# Altium integrated library Microchip Microcontroller 8-Bit PIC16.IntLib: 1529 symbols (part 12 of 55)
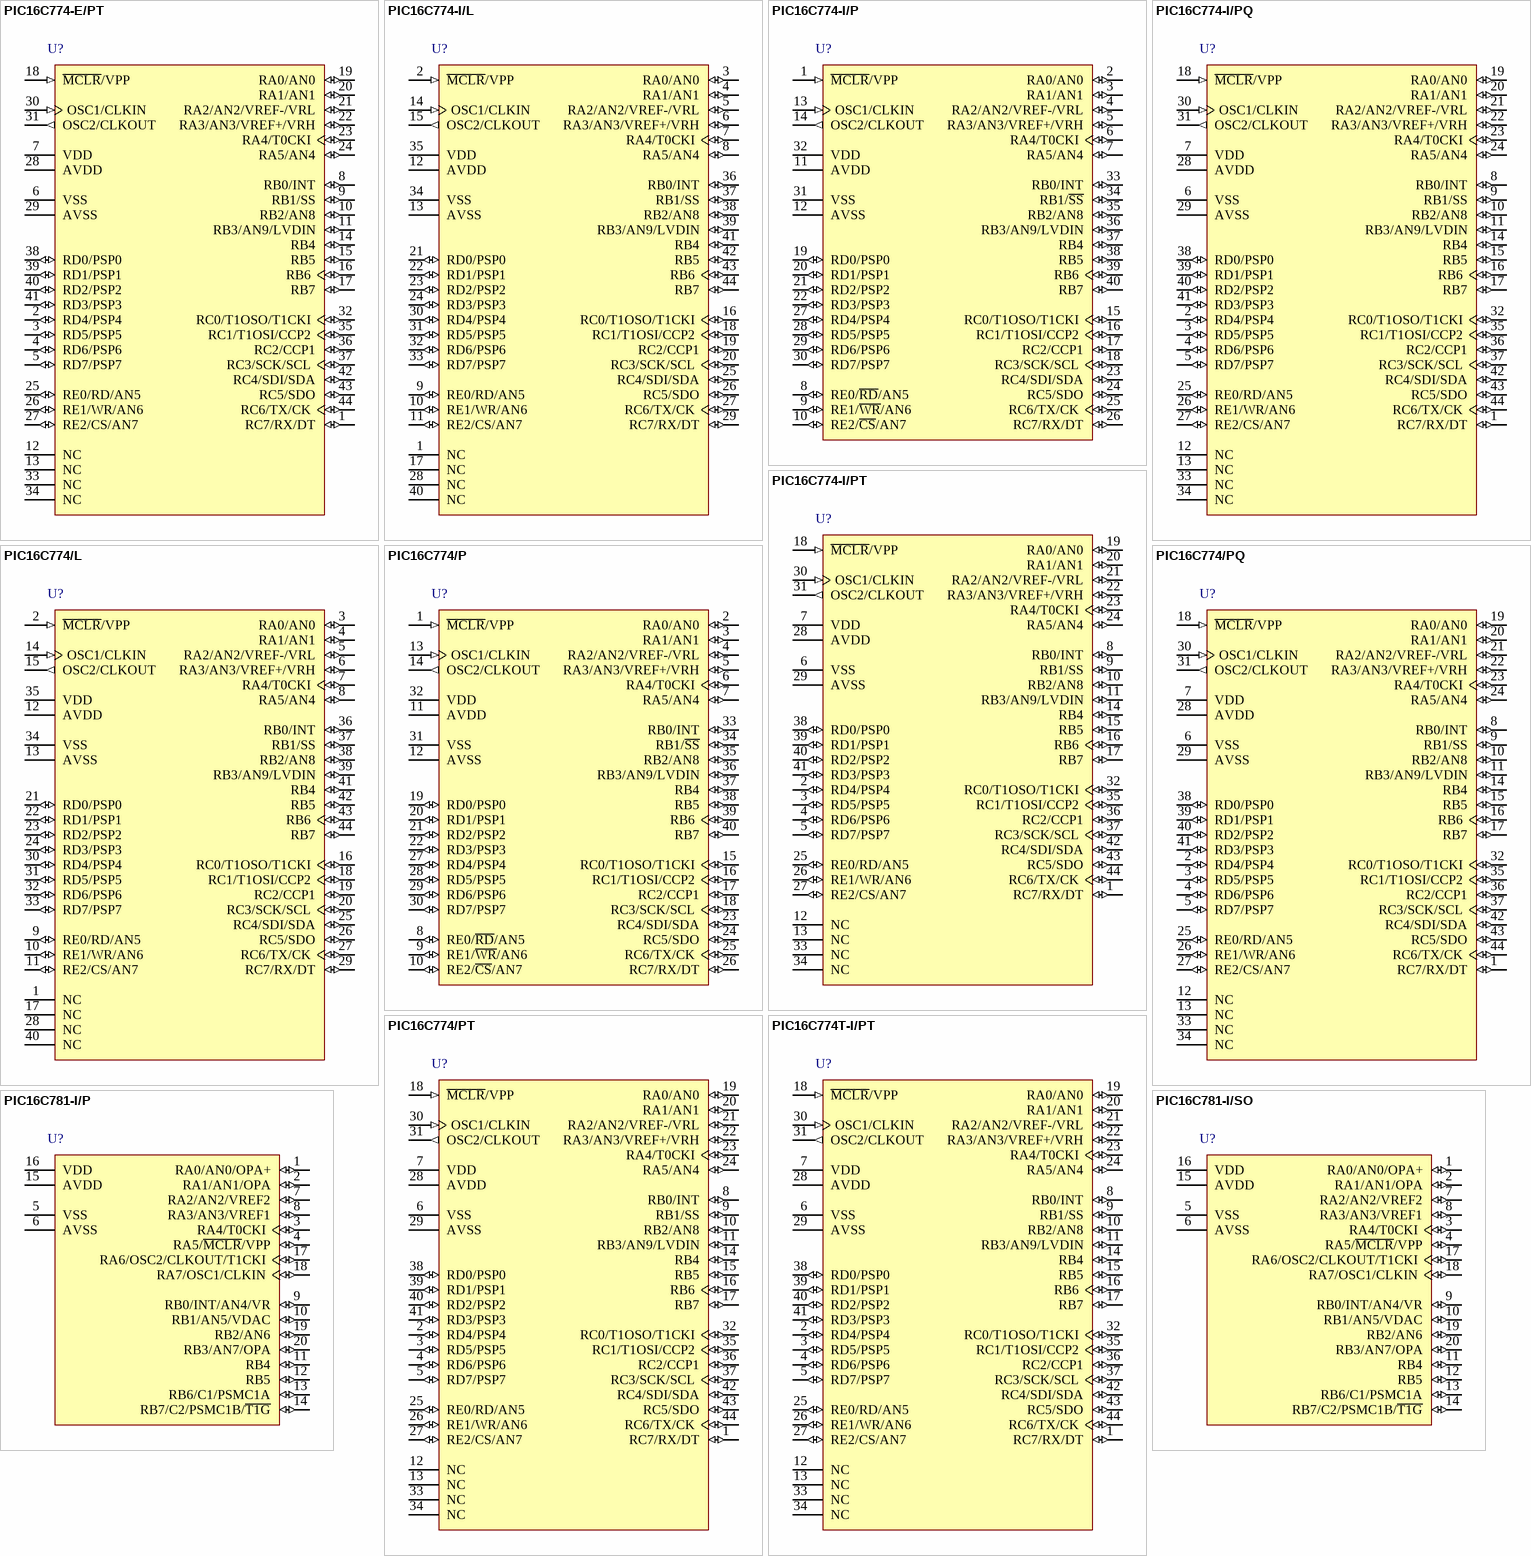
[diagram p129: symbols PIC16C774-E/PT to PIC16C781-I/SO]

## PIC16C774/PQ
designator U?
8-Bit CMOS Microcontroller with 12-Bit A/D, 4K (x14-Bit words) Program Memory, 256 Bytes Data Memory, 44-Pin MQFP, Standard VDD Range, Commercial Temperature; ComponentAvailability: Unknown. Contact manufacturer to determine status.; Published: 29-Jan-2009; DatasheetVersion: revA, 1999; PackageVersion: revBB, Aug-2009; PackageReference: MQFP-PQ44; Publisher: Altium Limited; PackageDescription: 44-Lead Plastic Metric Quad Flatpack (PQ) - 10x10x2mm Body, 3.20mm [MQFP]; Supplier 1: Digi-Key; Supplier Part Number 1: PIC16C774/PQ-ND; Code_JEDEC: MS-022; Code_IPC: QFP80P1320X1320-44; ComponentLink1Description: Datasheet; ComponentLink1URL: http://ww1.microchip.com/downloads/en/DeviceDoc/30275a.pdf; ComponentLink2Description: Packaging Specification; ComponentLink2URL: http://www.microchip.com/stellent/groups/techpub_sg/documents/packagingspec/en012702.pdf; ComponentLink3Description: Microchip.com Home; ComponentLink3URL: http://www.microchip.com/
footprint MQFP-PQ44_N (QFP, 44-Leads, Body 10x10mm, Pitch 0.8mm, IPC Medium Density)
footprint MQFP-PQ44_L (QFP, 44-Leads, Body 10x10mm, Pitch 0.8mm, IPC High Density)
footprint MQFP-PQ44_M (QFP, 44-Leads, Body 10x10mm, Pitch 0.8mm, IPC Low Density)
pins: 1 RC7/RX/DT (io), 2 RD4/PSP4 (io), 3 RD5/PSP5 (io), 4 RD6/PSP6 (io), 5 RD7/PSP7 (io), 6 VSS (power), 7 VDD (power), 8 RB0/INT (io), 9 RB1/SS (io), 10 RB2/AN8 (io), 11 RB3/AN9/LVDIN (io), 12 NC, 13 NC, 14 RB4 (io), 15 RB5 (io), 16 RB6 (io), 17 RB7 (io), 18 ~{MCLR}/VPP (in), 19 RA0/AN0 (io), 20 RA1/AN1 (io), 21 RA2/AN2/VREF-/VRL (io), 22 RA3/AN3/VREF+/VRH (io), 23 RA4/T0CKI (io), 24 RA5/AN4 (io), 25 RE0/RD/AN5 (io), 26 RE1/WR/AN6 (io), 27 RE2/CS/AN7 (io), 28 AVDD (power), 29 AVSS (power), 30 OSC1/CLKIN (in), 31 OSC2/CLKOUT (out), 32 RC0/T1OSO/T1CKI (io), 33 NC, 34 NC, 35 RC1/T1OSI/CCP2 (io), 36 RC2/CCP1 (io), 37 RC3/SCK/SCL (io), 38 RD0/PSP0 (io), 39 RD1/PSP1 (io), 40 RD2/PSP2 (io), 41 RD3/PSP3 (io), 42 RC4/SDI/SDA (io), 43 RC5/SDO (io), 44 RC6/TX/CK (io)

## PIC16C774/PT
designator U?
8-Bit CMOS Microcontroller with 12-Bit A/D, 4K (x14-Bit words) Program Memory, 256 Bytes Data Memory, 44-Pin TQFP, Standard VDD Range, Commercial Temperature; ComponentAvailability: Unknown. Contact manufacturer to determine status.; Published: 29-Jan-2009; DatasheetVersion: revA, 1999; PackageVersion: revBB, Aug-2009; PackageReference: TQFP-PT44; Publisher: Altium Limited; PackageDescription: 44-Lead Plastic Thin Quad Flatpack (PT) - 10x10x1mm Body, 2.00mm [TQFP]; Supplier 1: Digi-Key; Supplier Part Number 1: PIC16C774/PT-ND; Code_JEDEC: MS-026; ComponentLink1Description: Datasheet; ComponentLink1URL: http://ww1.microchip.com/downloads/en/DeviceDoc/30275a.pdf; ComponentLink2Description: Packaging Specification; ComponentLink2URL: http://www.microchip.com/stellent/groups/techpub_sg/documents/packagingspec/en012702.pdf; ComponentLink3Description: Microchip.com Home; ComponentLink3URL: http://www.microchip.com/
footprint TQFP-PT44_N (Thin QFP, 44-Leads, Body 10x10mm, Pitch 0.8mm, IPC Medium Density)
footprint TQFP-PT44_L (Thin QFP, 44-Leads, Body 10x10mm, Pitch 0.8mm, IPC High Density)
footprint TQFP-PT44_M (Thin QFP, 44-Leads, Body 10x10mm, Pitch 0.8mm, IPC Low Density)
pins: 1 RC7/RX/DT (io), 2 RD4/PSP4 (io), 3 RD5/PSP5 (io), 4 RD6/PSP6 (io), 5 RD7/PSP7 (io), 6 VSS (power), 7 VDD (power), 8 RB0/INT (io), 9 RB1/SS (io), 10 RB2/AN8 (io), 11 RB3/AN9/LVDIN (io), 12 NC, 13 NC, 14 RB4 (io), 15 RB5 (io), 16 RB6 (io), 17 RB7 (io), 18 ~{MCLR}/VPP (in), 19 RA0/AN0 (io), 20 RA1/AN1 (io), 21 RA2/AN2/VREF-/VRL (io), 22 RA3/AN3/VREF+/VRH (io), 23 RA4/T0CKI (io), 24 RA5/AN4 (io), 25 RE0/RD/AN5 (io), 26 RE1/WR/AN6 (io), 27 RE2/CS/AN7 (io), 28 AVDD (power), 29 AVSS (power), 30 OSC1/CLKIN (in), 31 OSC2/CLKOUT (out), 32 RC0/T1OSO/T1CKI (io), 33 NC, 34 NC, 35 RC1/T1OSI/CCP2 (io), 36 RC2/CCP1 (io), 37 RC3/SCK/SCL (io), 38 RD0/PSP0 (io), 39 RD1/PSP1 (io), 40 RD2/PSP2 (io), 41 RD3/PSP3 (io), 42 RC4/SDI/SDA (io), 43 RC5/SDO (io), 44 RC6/TX/CK (io)

## PIC16C774T-I/PT
designator U?
8-Bit CMOS Microcontroller with 12-Bit A/D, 4K (x14-Bit words) Program Memory, 256 Bytes Data Memory, 44-Pin TQFP, Standard VDD Range, Industrial Temperature, Tape and Reel; ComponentAvailability: Unknown. Contact manufacturer to determine status.; Published: 29-Jan-2009; DatasheetVersion: revA, 1999; PackageVersion: revBB, Aug-2009; PackageReference: TQFP-PT44; Publisher: Altium Limited; PackageDescription: 44-Lead Plastic Thin Quad Flatpack (PT) - 10x10x1mm Body, 2.00mm [TQFP]; Supplier 1: Digi-Key; Supplier Part Number 1: PIC16C774T-I/PT-ND; Code_JEDEC: MS-026; ComponentLink1Description: Datasheet; ComponentLink1URL: http://ww1.microchip.com/downloads/en/DeviceDoc/30275a.pdf; ComponentLink2Description: Packaging Specification; ComponentLink2URL: http://www.microchip.com/stellent/groups/techpub_sg/documents/packagingspec/en012702.pdf; ComponentLink3Description: Microchip.com Home; ComponentLink3URL: http://www.microchip.com/
footprint TQFP-PT44_N (Thin QFP, 44-Leads, Body 10x10mm, Pitch 0.8mm, IPC Medium Density)
footprint TQFP-PT44_L (Thin QFP, 44-Leads, Body 10x10mm, Pitch 0.8mm, IPC High Density)
footprint TQFP-PT44_M (Thin QFP, 44-Leads, Body 10x10mm, Pitch 0.8mm, IPC Low Density)
pins: 1 RC7/RX/DT (io), 2 RD4/PSP4 (io), 3 RD5/PSP5 (io), 4 RD6/PSP6 (io), 5 RD7/PSP7 (io), 6 VSS (power), 7 VDD (power), 8 RB0/INT (io), 9 RB1/SS (io), 10 RB2/AN8 (io), 11 RB3/AN9/LVDIN (io), 12 NC, 13 NC, 14 RB4 (io), 15 RB5 (io), 16 RB6 (io), 17 RB7 (io), 18 ~{MCLR}/VPP (in), 19 RA0/AN0 (io), 20 RA1/AN1 (io), 21 RA2/AN2/VREF-/VRL (io), 22 RA3/AN3/VREF+/VRH (io), 23 RA4/T0CKI (io), 24 RA5/AN4 (io), 25 RE0/RD/AN5 (io), 26 RE1/WR/AN6 (io), 27 RE2/CS/AN7 (io), 28 AVDD (power), 29 AVSS (power), 30 OSC1/CLKIN (in), 31 OSC2/CLKOUT (out), 32 RC0/T1OSO/T1CKI (io), 33 NC, 34 NC, 35 RC1/T1OSI/CCP2 (io), 36 RC2/CCP1 (io), 37 RC3/SCK/SCL (io), 38 RD0/PSP0 (io), 39 RD1/PSP1 (io), 40 RD2/PSP2 (io), 41 RD3/PSP3 (io), 42 RC4/SDI/SDA (io), 43 RC5/SDO (io), 44 RC6/TX/CK (io)

## PIC16C781-I/P
designator U?
8-Bit CMOS Microcontroller with A/D, D/A, OPAMP, Comparators and PSMC, 1K (x14-Bit words) EPROM, 128 Bytes RAM, 20-Pin PDIP, 4.0 to 5.5V Supply Range, Industrial Temperature; Note: AVDD and AVSS pins are used for modules C1, C2, OPA, DAC, ADC, and VR.; ComponentAvailability: Unknown. Contact manufacturer to determine status.; Published: 11-Oct-2004; LatestRevisionDate: 29-Jan-2009; LatestRevisionNote: Sch. layout revised. 3D Model Removed.; DatasheetVersion: revA, Nov-2002; PackageVersion: revBB, Aug-2009; PackageReference: PDIP300-P20; Publisher: Altium Limited; PackageDescription: 20-Lead Plastic Dual In-Line (P) - 300 mil Body [PDIP]; Supplier 1: Digi-Key; Supplier Part Number 1: PIC16C781-I/P-ND; ComponentLink1Description: Datasheet; ComponentLink1URL: http://ww1.microchip.com/downloads/en/DeviceDoc/41171a.pdf; ComponentLink2Description: Packaging Specification; ComponentLink2URL: http://www.microchip.com/stellent/groups/techpub_sg/documents/packagingspec/en012702.pdf; ComponentLink3Description: Microchip.com Home; ComponentLink3URL: http://www.microchip.com/
footprint PDIP300-P20 (DIP, 20-Leads, Row Spacing 7.62mm, Pitch 2.54mm, Body 25.9x6.6mm)
pins: 1 RA0/AN0/OPA+ (io), 2 RA1/AN1/OPA (io), 3 RA4/T0CKI (io), 4 RA5/~{MCLR}/VPP (io), 5 VSS (power), 6 AVSS (power), 7 RA2/AN2/VREF2 (io), 8 RA3/AN3/VREF1 (io), 9 RB0/INT/AN4/VR (io), 10 RB1/AN5/VDAC (io), 11 RB4 (io), 12 RB5 (io), 13 RB6/C1/PSMC1A (io), 14 RB7/C2/PSMC1B/~{T1G} (io), 15 AVDD (power), 16 VDD (power), 17 RA6/OSC2/CLKOUT/T1CKI (io), 18 RA7/OSC1/CLKIN (io), 19 RB2/AN6 (io), 20 RB3/AN7/OPA (io)

## PIC16C781-I/SO
designator U?
8-Bit CMOS Microcontroller with A/D, D/A, OPAMP, Comparators and PSMC, 1K (x14-Bit words) EPROM, 128 Bytes RAM, 20-Pin SOIC, 4.0 to 5.5V Supply Range, Industrial Temperature; Note: AVDD and AVSS pins are used for modules C1, C2, OPA, DAC, ADC, and VR.; ComponentAvailability: Unknown. Contact manufacturer to determine status.; Published: 11-Oct-2004; LatestRevisionDate: 29-Jan-2009; LatestRevisionNote: Sch. layout revised. 3D Model Removed.; DatasheetVersion: revA, Nov-2002; PackageVersion: revBB, Aug-2009; PackageReference: SOIC-SO20; Publisher: Altium Limited; PackageDescription: 20-Lead Plastic Small Outline (SO) - Wide 7.50mm Body [SOIC]; Supplier 1: Digi-Key; Supplier Part Number 1: PIC16C781-I/SO-ND; Code_JEDEC: MS-013-AC; Code_IPC: SOIC127P1030-20; ComponentLink1Description: Datasheet; ComponentLink1URL: http://ww1.microchip.com/downloads/en/DeviceDoc/41171a.pdf; ComponentLink2Description: Packaging Specification; ComponentLink2URL: http://www.microchip.com/stellent/groups/techpub_sg/documents/packagingspec/en012702.pdf; ComponentLink3Description: Microchip.com Home; ComponentLink3URL: http://www.microchip.com/
footprint SOIC-SO20_N (SOIC, 20-Leads, Body 12.8x7.5mm, Pitch 1.27mm, IPC Medium Density)
footprint SOIC-SO20_L (SOIC, 20-Leads, Body 12.8x7.5mm, Pitch 1.27mm, IPC High Density)
footprint SOIC-SO20_M (SOIC, 20-Leads, Body 12.8x7.5mm, Pitch 1.27mm, IPC Low Density)
pins: 1 RA0/AN0/OPA+ (io), 2 RA1/AN1/OPA (io), 3 RA4/T0CKI (io), 4 RA5/~{MCLR}/VPP (io), 5 VSS (power), 6 AVSS (power), 7 RA2/AN2/VREF2 (io), 8 RA3/AN3/VREF1 (io), 9 RB0/INT/AN4/VR (io), 10 RB1/AN5/VDAC (io), 11 RB4 (io), 12 RB5 (io), 13 RB6/C1/PSMC1A (io), 14 RB7/C2/PSMC1B/~{T1G} (io), 15 AVDD (power), 16 VDD (power), 17 RA6/OSC2/CLKOUT/T1CKI (io), 18 RA7/OSC1/CLKIN (io), 19 RB2/AN6 (io), 20 RB3/AN7/OPA (io)

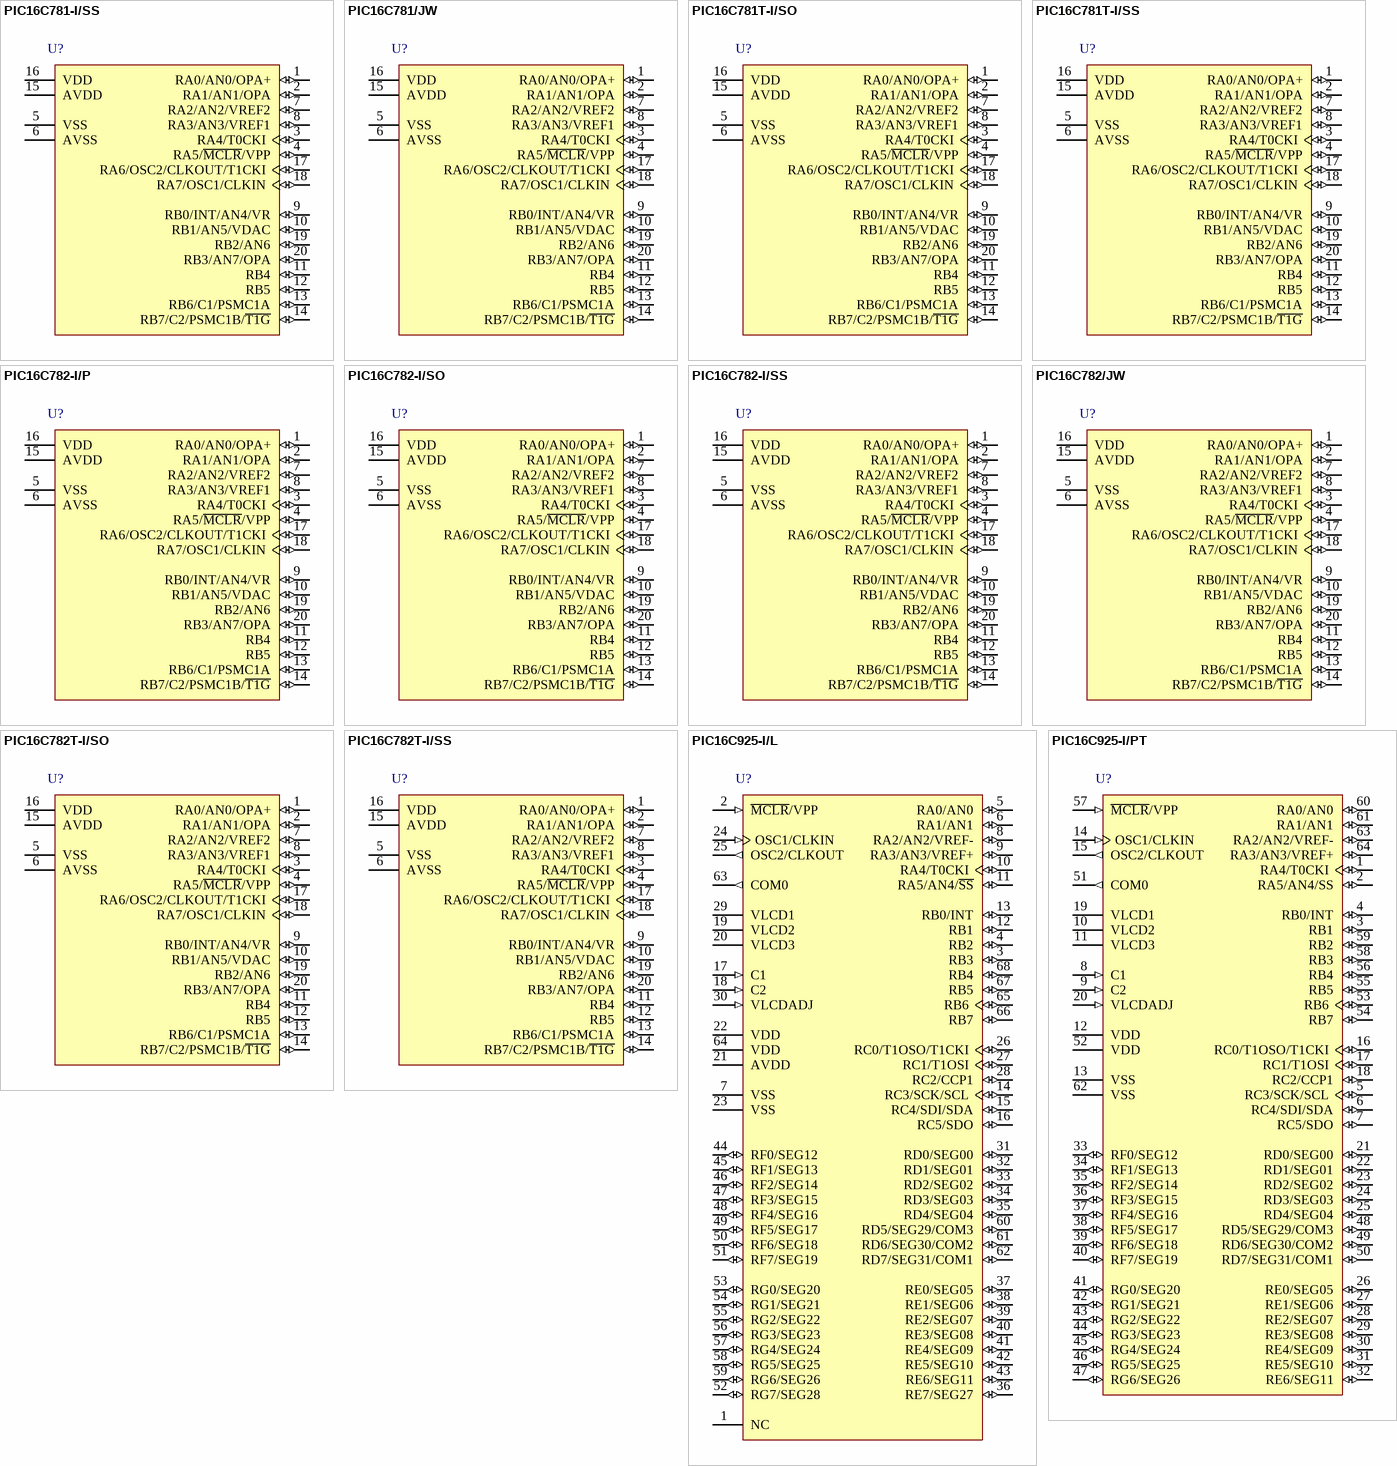
[diagram p21: symbols PIC16C781-I/SS to PIC16C925-I/PT]

## PIC16C781-I/SS
designator U?
8-Bit CMOS Microcontroller with A/D, D/A, OPAMP, Comparators and PSMC, 1K (x14-Bit words) EPROM, 128 Bytes RAM, 20-Pin SSOP, 4.0 to 5.5V Supply Range, Industrial Temperature; Note: AVDD and AVSS pins are used for modules C1, C2, OPA, DAC, ADC, and VR.; ComponentAvailability: Unknown. Contact manufacturer to determine status.; Published: 11-Oct-2004; LatestRevisionDate: 29-Jan-2009; LatestRevisionNote: Sch. layout revised. 3D Model Removed.; DatasheetVersion: revA, Nov-2002; PackageVersion: revBB, Aug-2009; PackageReference: SSOP-SS20; Publisher: Altium Limited; PackageDescription: 20-Lead Plastic Shrink Small Outline (SS) - 5.3mm Body [SSOP]; Supplier 1: Digi-Key; Supplier Part Number 1: PIC16C781-I/SS-ND; Code_JEDEC: MO-150; Code_IPC: SOP65P780-20; ComponentLink1Description: Datasheet; ComponentLink1URL: http://ww1.microchip.com/downloads/en/DeviceDoc/41171a.pdf; ComponentLink2Description: Packaging Specification; ComponentLink2URL: http://www.microchip.com/stellent/groups/techpub_sg/documents/packagingspec/en012702.pdf; ComponentLink3Description: Microchip.com Home; ComponentLink3URL: http://www.microchip.com/
footprint SSOP-SS20_N (SOP, 20-Leads, Body 7.2x5.2mm, Pitch 0.65mm, IPC Medium Density)
footprint SSOP-SS20_L (SOP, 20-Leads, Body 7.2x5.2mm, Pitch 0.65mm, IPC High Density)
footprint SSOP-SS20_M (SOP, 20-Leads, Body 7.2x5.2mm, Pitch 0.65mm, IPC Low Density)
pins: 1 RA0/AN0/OPA+ (io), 2 RA1/AN1/OPA (io), 3 RA4/T0CKI (io), 4 RA5/~{MCLR}/VPP (io), 5 VSS (power), 6 AVSS (power), 7 RA2/AN2/VREF2 (io), 8 RA3/AN3/VREF1 (io), 9 RB0/INT/AN4/VR (io), 10 RB1/AN5/VDAC (io), 11 RB4 (io), 12 RB5 (io), 13 RB6/C1/PSMC1A (io), 14 RB7/C2/PSMC1B/~{T1G} (io), 15 AVDD (power), 16 VDD (power), 17 RA6/OSC2/CLKOUT/T1CKI (io), 18 RA7/OSC1/CLKIN (io), 19 RB2/AN6 (io), 20 RB3/AN7/OPA (io)

## PIC16C781/JW
designator U?
8-Bit CMOS Microcontroller with A/D, D/A, OPAMP, Comparators and PSMC, 1K (x14-Bit words) EPROM, 128 Bytes RAM, 20-Pin CERDIP, UV Erasable, 4.0 to 5.5V Supply Range, Commercial Temperature; Note: AVDD and AVSS pins are used for modules C1, C2, OPA, DAC, ADC, and VR.; ComponentAvailability: Unknown. Contact manufacturer to determine status.; Published: 11-Oct-2004; LatestRevisionDate: 29-Jan-2009; LatestRevisionNote: Sch. layout revised. 3D Model Removed.; DatasheetVersion: revA, Nov-2002; PackageVersion: revBB, Aug-2009; PackageReference: CERDIP300-JW20; Publisher: Altium Limited; PackageDescription: 20-Lead Ceramic Dual In-Line with Window (JW) - .300" Body [CERDIP]; Supplier 1: Digi-Key; Supplier Part Number 1: PIC16C781/JW-ND; Supplier 2: Farnell; Supplier Part Number 2: 4137050; Code_JEDEC: MS-030; ComponentLink1Description: Datasheet; ComponentLink1URL: http://ww1.microchip.com/downloads/en/DeviceDoc/41171a.pdf; ComponentLink2Description: Packaging Specification; ComponentLink2URL: http://www.microchip.com/stellent/groups/techpub_sg/documents/packagingspec/en012702.pdf; ComponentLink3Description: Microchip.com Home; ComponentLink3URL: http://www.microchip.com/
footprint CERDIP300-JW20 (DIP, 20-Leads, Row Spacing 7.62mm, Pitch 2.54mm, Body 24.3x7.3mm, Window)
pins: 1 RA0/AN0/OPA+ (io), 2 RA1/AN1/OPA (io), 3 RA4/T0CKI (io), 4 RA5/~{MCLR}/VPP (io), 5 VSS (power), 6 AVSS (power), 7 RA2/AN2/VREF2 (io), 8 RA3/AN3/VREF1 (io), 9 RB0/INT/AN4/VR (io), 10 RB1/AN5/VDAC (io), 11 RB4 (io), 12 RB5 (io), 13 RB6/C1/PSMC1A (io), 14 RB7/C2/PSMC1B/~{T1G} (io), 15 AVDD (power), 16 VDD (power), 17 RA6/OSC2/CLKOUT/T1CKI (io), 18 RA7/OSC1/CLKIN (io), 19 RB2/AN6 (io), 20 RB3/AN7/OPA (io)

## PIC16C781T-I/SO
designator U?
8-Bit CMOS Microcontroller with A/D, D/A, OPAMP, Comparators and PSMC, 1K (x14-Bit words) EPROM, 128 Bytes RAM, 20-Pin SOIC, 4.0 to 5.5V Supply Range, Industrial Temperature, Tape and Reel; Note: AVDD and AVSS pins are used for modules C1, C2, OPA, DAC, ADC, and VR.; ComponentAvailability: Unknown. Contact manufacturer to determine status.; Published: 11-Oct-2004; LatestRevisionDate: 29-Jan-2009; LatestRevisionNote: Sch. layout revised. 3D Model Removed.; DatasheetVersion: revA, Nov-2002; PackageVersion: revBB, Aug-2009; PackageReference: SOIC-SO20; Publisher: Altium Limited; PackageDescription: 20-Lead Plastic Small Outline (SO) - Wide 7.50mm Body [SOIC]; Supplier 1: Digi-Key; Supplier Part Number 1: PIC16C781T-I/SO-ND; Code_JEDEC: MS-013-AC; Code_IPC: SOIC127P1030-20; ComponentLink1Description: Datasheet; ComponentLink1URL: http://ww1.microchip.com/downloads/en/DeviceDoc/41171a.pdf; ComponentLink2Description: Packaging Specification; ComponentLink2URL: http://www.microchip.com/stellent/groups/techpub_sg/documents/packagingspec/en012702.pdf; ComponentLink3Description: Microchip.com Home; ComponentLink3URL: http://www.microchip.com/
footprint SOIC-SO20_N (SOIC, 20-Leads, Body 12.8x7.5mm, Pitch 1.27mm, IPC Medium Density)
footprint SOIC-SO20_L (SOIC, 20-Leads, Body 12.8x7.5mm, Pitch 1.27mm, IPC High Density)
footprint SOIC-SO20_M (SOIC, 20-Leads, Body 12.8x7.5mm, Pitch 1.27mm, IPC Low Density)
pins: 1 RA0/AN0/OPA+ (io), 2 RA1/AN1/OPA (io), 3 RA4/T0CKI (io), 4 RA5/~{MCLR}/VPP (io), 5 VSS (power), 6 AVSS (power), 7 RA2/AN2/VREF2 (io), 8 RA3/AN3/VREF1 (io), 9 RB0/INT/AN4/VR (io), 10 RB1/AN5/VDAC (io), 11 RB4 (io), 12 RB5 (io), 13 RB6/C1/PSMC1A (io), 14 RB7/C2/PSMC1B/~{T1G} (io), 15 AVDD (power), 16 VDD (power), 17 RA6/OSC2/CLKOUT/T1CKI (io), 18 RA7/OSC1/CLKIN (io), 19 RB2/AN6 (io), 20 RB3/AN7/OPA (io)

## PIC16C781T-I/SS
designator U?
8-Bit CMOS Microcontroller with A/D, D/A, OPAMP, Comparators and PSMC, 1K (x14-Bit words) EPROM, 128 Bytes RAM, 20-Pin SSOP, 4.0 to 5.5V Supply Range, Industrial Temperature, Tape and Reel; Note: AVDD and AVSS pins are used for modules C1, C2, OPA, DAC, ADC, and VR.; ComponentAvailability: Unknown. Contact manufacturer to determine status.; Published: 11-Oct-2004; LatestRevisionDate: 29-Jan-2009; LatestRevisionNote: Sch. layout revised. 3D Model Removed.; DatasheetVersion: revA, Nov-2002; PackageVersion: revBB, Aug-2009; PackageReference: SSOP-SS20; Publisher: Altium Limited; PackageDescription: 20-Lead Plastic Shrink Small Outline (SS) - 5.3mm Body [SSOP]; Supplier 1: Digi-Key; Supplier Part Number 1: PIC16C781T-I/SS-ND; Code_JEDEC: MO-150; Code_IPC: SOP65P780-20; ComponentLink1Description: Datasheet; ComponentLink1URL: http://ww1.microchip.com/downloads/en/DeviceDoc/41171a.pdf; ComponentLink2Description: Packaging Specification; ComponentLink2URL: http://www.microchip.com/stellent/groups/techpub_sg/documents/packagingspec/en012702.pdf; ComponentLink3Description: Microchip.com Home; ComponentLink3URL: http://www.microchip.com/
footprint SSOP-SS20_N (SOP, 20-Leads, Body 7.2x5.2mm, Pitch 0.65mm, IPC Medium Density)
footprint SSOP-SS20_L (SOP, 20-Leads, Body 7.2x5.2mm, Pitch 0.65mm, IPC High Density)
footprint SSOP-SS20_M (SOP, 20-Leads, Body 7.2x5.2mm, Pitch 0.65mm, IPC Low Density)
pins: 1 RA0/AN0/OPA+ (io), 2 RA1/AN1/OPA (io), 3 RA4/T0CKI (io), 4 RA5/~{MCLR}/VPP (io), 5 VSS (power), 6 AVSS (power), 7 RA2/AN2/VREF2 (io), 8 RA3/AN3/VREF1 (io), 9 RB0/INT/AN4/VR (io), 10 RB1/AN5/VDAC (io), 11 RB4 (io), 12 RB5 (io), 13 RB6/C1/PSMC1A (io), 14 RB7/C2/PSMC1B/~{T1G} (io), 15 AVDD (power), 16 VDD (power), 17 RA6/OSC2/CLKOUT/T1CKI (io), 18 RA7/OSC1/CLKIN (io), 19 RB2/AN6 (io), 20 RB3/AN7/OPA (io)

## PIC16C782-I/P
designator U?
8-Bit CMOS Microcontroller with A/D, D/A, OPAMP, Comparators and PSMC, 2K (x14-Bit words) EPROM, 128 Bytes RAM, 20-Pin PDIP, 4.0 to 5.5V Supply Range, Industrial Temperature; Note: AVDD and AVSS pins are used for modules C1, C2, OPA, DAC, ADC, and VR.; ComponentAvailability: Unknown. Contact manufacturer to determine status.; Published: 11-Oct-2004; LatestRevisionDate: 29-Jan-2009; LatestRevisionNote: Sch. layout revised. 3D Model Removed.; DatasheetVersion: revA, Nov-2002; PackageVersion: revBB, Aug-2009; PackageReference: PDIP300-P20; Publisher: Altium Limited; PackageDescription: 20-Lead Plastic Dual In-Line (P) - 300 mil Body [PDIP]; Supplier 1: Digi-Key; Supplier Part Number 1: PIC16C782-I/P-ND; Supplier 2: Farnell; Supplier Part Number 2: 1137342; ComponentLink1Description: Datasheet; ComponentLink1URL: http://ww1.microchip.com/downloads/en/DeviceDoc/41171a.pdf; ComponentLink2Description: Packaging Specification; ComponentLink2URL: http://www.microchip.com/stellent/groups/techpub_sg/documents/packagingspec/en012702.pdf; ComponentLink3Description: Microchip.com Home; ComponentLink3URL: http://www.microchip.com/
footprint PDIP300-P20 (DIP, 20-Leads, Row Spacing 7.62mm, Pitch 2.54mm, Body 25.9x6.6mm)
pins: 1 RA0/AN0/OPA+ (io), 2 RA1/AN1/OPA (io), 3 RA4/T0CKI (io), 4 RA5/~{MCLR}/VPP (io), 5 VSS (power), 6 AVSS (power), 7 RA2/AN2/VREF2 (io), 8 RA3/AN3/VREF1 (io), 9 RB0/INT/AN4/VR (io), 10 RB1/AN5/VDAC (io), 11 RB4 (io), 12 RB5 (io), 13 RB6/C1/PSMC1A (io), 14 RB7/C2/PSMC1B/~{T1G} (io), 15 AVDD (power), 16 VDD (power), 17 RA6/OSC2/CLKOUT/T1CKI (io), 18 RA7/OSC1/CLKIN (io), 19 RB2/AN6 (io), 20 RB3/AN7/OPA (io)

## PIC16C782-I/SO
designator U?
8-Bit CMOS Microcontroller with A/D, D/A, OPAMP, Comparators and PSMC, 2K (x14-Bit words) EPROM, 128 Bytes RAM, 20-Pin SOIC, 4.0 to 5.5V Supply Range, Industrial Temperature; Note: AVDD and AVSS pins are used for modules C1, C2, OPA, DAC, ADC, and VR.; ComponentAvailability: Unknown. Contact manufacturer to determine status.; Published: 11-Oct-2004; LatestRevisionDate: 29-Jan-2009; LatestRevisionNote: Sch. layout revised. 3D Model Removed.; DatasheetVersion: revA, Nov-2002; PackageVersion: revBB, Aug-2009; PackageReference: SOIC-SO20; Publisher: Altium Limited; PackageDescription: 20-Lead Plastic Small Outline (SO) - Wide 7.50mm Body [SOIC]; Supplier 1: Digi-Key; Supplier Part Number 1: PIC16C782-I/SO-ND; Code_JEDEC: MS-013-AC; Code_IPC: SOIC127P1030-20; ComponentLink1Description: Datasheet; ComponentLink1URL: http://ww1.microchip.com/downloads/en/DeviceDoc/41171a.pdf; ComponentLink2Description: Packaging Specification; ComponentLink2URL: http://www.microchip.com/stellent/groups/techpub_sg/documents/packagingspec/en012702.pdf; ComponentLink3Description: Microchip.com Home; ComponentLink3URL: http://www.microchip.com/
footprint SOIC-SO20_N (SOIC, 20-Leads, Body 12.8x7.5mm, Pitch 1.27mm, IPC Medium Density)
footprint SOIC-SO20_L (SOIC, 20-Leads, Body 12.8x7.5mm, Pitch 1.27mm, IPC High Density)
footprint SOIC-SO20_M (SOIC, 20-Leads, Body 12.8x7.5mm, Pitch 1.27mm, IPC Low Density)
pins: 1 RA0/AN0/OPA+ (io), 2 RA1/AN1/OPA (io), 3 RA4/T0CKI (io), 4 RA5/~{MCLR}/VPP (io), 5 VSS (power), 6 AVSS (power), 7 RA2/AN2/VREF2 (io), 8 RA3/AN3/VREF1 (io), 9 RB0/INT/AN4/VR (io), 10 RB1/AN5/VDAC (io), 11 RB4 (io), 12 RB5 (io), 13 RB6/C1/PSMC1A (io), 14 RB7/C2/PSMC1B/~{T1G} (io), 15 AVDD (power), 16 VDD (power), 17 RA6/OSC2/CLKOUT/T1CKI (io), 18 RA7/OSC1/CLKIN (io), 19 RB2/AN6 (io), 20 RB3/AN7/OPA (io)

## PIC16C782-I/SS
designator U?
8-Bit CMOS Microcontroller with A/D, D/A, OPAMP, Comparators and PSMC, 2K (x14-Bit words) EPROM, 128 Bytes RAM, 20-Pin SSOP, 4.0 to 5.5V Supply Range, Industrial Temperature; Note: AVDD and AVSS pins are used for modules C1, C2, OPA, DAC, ADC, and VR.; ComponentAvailability: Unknown. Contact manufacturer to determine status.; Published: 11-Oct-2004; LatestRevisionDate: 29-Jan-2009; LatestRevisionNote: Sch. layout revised. 3D Model Removed.; DatasheetVersion: revA, Nov-2002; PackageVersion: revBB, Aug-2009; PackageReference: SSOP-SS20; Publisher: Altium Limited; PackageDescription: 20-Lead Plastic Shrink Small Outline (SS) - 5.3mm Body [SSOP]; Supplier 1: Digi-Key; Supplier Part Number 1: PIC16C782-I/SS-ND; Code_JEDEC: MO-150; Code_IPC: SOP65P780-20; ComponentLink1Description: Datasheet; ComponentLink1URL: http://ww1.microchip.com/downloads/en/DeviceDoc/41171a.pdf; ComponentLink2Description: Packaging Specification; ComponentLink2URL: http://www.microchip.com/stellent/groups/techpub_sg/documents/packagingspec/en012702.pdf; ComponentLink3Description: Microchip.com Home; ComponentLink3URL: http://www.microchip.com/
footprint SSOP-SS20_N (SOP, 20-Leads, Body 7.2x5.2mm, Pitch 0.65mm, IPC Medium Density)
footprint SSOP-SS20_L (SOP, 20-Leads, Body 7.2x5.2mm, Pitch 0.65mm, IPC High Density)
footprint SSOP-SS20_M (SOP, 20-Leads, Body 7.2x5.2mm, Pitch 0.65mm, IPC Low Density)
pins: 1 RA0/AN0/OPA+ (io), 2 RA1/AN1/OPA (io), 3 RA4/T0CKI (io), 4 RA5/~{MCLR}/VPP (io), 5 VSS (power), 6 AVSS (power), 7 RA2/AN2/VREF2 (io), 8 RA3/AN3/VREF1 (io), 9 RB0/INT/AN4/VR (io), 10 RB1/AN5/VDAC (io), 11 RB4 (io), 12 RB5 (io), 13 RB6/C1/PSMC1A (io), 14 RB7/C2/PSMC1B/~{T1G} (io), 15 AVDD (power), 16 VDD (power), 17 RA6/OSC2/CLKOUT/T1CKI (io), 18 RA7/OSC1/CLKIN (io), 19 RB2/AN6 (io), 20 RB3/AN7/OPA (io)

## PIC16C782/JW
designator U?
8-Bit CMOS Microcontroller with A/D, D/A, OPAMP, Comparators and PSMC, 2K (x14-Bit words) EPROM, 128 Bytes RAM, 20-Pin CERDIP, UV Erasable, 4.0 to 5.5V Supply Range, Commercial Temperature; Note: AVDD and AVSS pins are used for modules C1, C2, OPA, DAC, ADC, and VR.; ComponentAvailability: Unknown. Contact manufacturer to determine status.; Published: 11-Oct-2004; LatestRevisionDate: 29-Jan-2009; LatestRevisionNote: Sch. layout revised. 3D Model Removed.; DatasheetVersion: revA, Nov-2002; PackageVersion: revBB, Aug-2009; PackageReference: CERDIP300-JW20; Publisher: Altium Limited; PackageDescription: 20-Lead Ceramic Dual In-Line with Window (JW) - .300" Body [CERDIP]; Supplier 1: Digi-Key; Supplier Part Number 1: PIC16C782/JW-ND; Supplier 2: Farnell; Supplier Part Number 2: 4137085; Code_JEDEC: MS-030; ComponentLink1Description: Datasheet; ComponentLink1URL: http://ww1.microchip.com/downloads/en/DeviceDoc/41171a.pdf; ComponentLink2Description: Packaging Specification; ComponentLink2URL: http://www.microchip.com/stellent/groups/techpub_sg/documents/packagingspec/en012702.pdf; ComponentLink3Description: Microchip.com Home; ComponentLink3URL: http://www.microchip.com/
footprint CERDIP300-JW20 (DIP, 20-Leads, Row Spacing 7.62mm, Pitch 2.54mm, Body 24.3x7.3mm, Window)
pins: 1 RA0/AN0/OPA+ (io), 2 RA1/AN1/OPA (io), 3 RA4/T0CKI (io), 4 RA5/~{MCLR}/VPP (io), 5 VSS (power), 6 AVSS (power), 7 RA2/AN2/VREF2 (io), 8 RA3/AN3/VREF1 (io), 9 RB0/INT/AN4/VR (io), 10 RB1/AN5/VDAC (io), 11 RB4 (io), 12 RB5 (io), 13 RB6/C1/PSMC1A (io), 14 RB7/C2/PSMC1B/~{T1G} (io), 15 AVDD (power), 16 VDD (power), 17 RA6/OSC2/CLKOUT/T1CKI (io), 18 RA7/OSC1/CLKIN (io), 19 RB2/AN6 (io), 20 RB3/AN7/OPA (io)

## PIC16C782T-I/SO
designator U?
8-Bit CMOS Microcontroller with A/D, D/A, OPAMP, Comparators and PSMC, 2K (x14-Bit words) EPROM, 128 Bytes RAM, 20-Pin SOIC, 4.0 to 5.5V Supply Range, Industrial Temperature, Tape and Reel; Note: AVDD and AVSS pins are used for modules C1, C2, OPA, DAC, ADC, and VR.; ComponentAvailability: Unknown. Contact manufacturer to determine status.; Published: 11-Oct-2004; LatestRevisionDate: 29-Jan-2009; LatestRevisionNote: Sch. layout revised. 3D Model Removed.; DatasheetVersion: revA, Nov-2002; PackageVersion: revBB, Aug-2009; PackageReference: SOIC-SO20; Publisher: Altium Limited; PackageDescription: 20-Lead Plastic Small Outline (SO) - Wide 7.50mm Body [SOIC]; Supplier 1: Digi-Key; Supplier Part Number 1: PIC16C782T-I/SO-ND; Code_JEDEC: MS-013-AC; Code_IPC: SOIC127P1030-20; ComponentLink1Description: Datasheet; ComponentLink1URL: http://ww1.microchip.com/downloads/en/DeviceDoc/41171a.pdf; ComponentLink2Description: Packaging Specification; ComponentLink2URL: http://www.microchip.com/stellent/groups/techpub_sg/documents/packagingspec/en012702.pdf; ComponentLink3Description: Microchip.com Home; ComponentLink3URL: http://www.microchip.com/
footprint SOIC-SO20_N (SOIC, 20-Leads, Body 12.8x7.5mm, Pitch 1.27mm, IPC Medium Density)
footprint SOIC-SO20_L (SOIC, 20-Leads, Body 12.8x7.5mm, Pitch 1.27mm, IPC High Density)
footprint SOIC-SO20_M (SOIC, 20-Leads, Body 12.8x7.5mm, Pitch 1.27mm, IPC Low Density)
pins: 1 RA0/AN0/OPA+ (io), 2 RA1/AN1/OPA (io), 3 RA4/T0CKI (io), 4 RA5/~{MCLR}/VPP (io), 5 VSS (power), 6 AVSS (power), 7 RA2/AN2/VREF2 (io), 8 RA3/AN3/VREF1 (io), 9 RB0/INT/AN4/VR (io), 10 RB1/AN5/VDAC (io), 11 RB4 (io), 12 RB5 (io), 13 RB6/C1/PSMC1A (io), 14 RB7/C2/PSMC1B/~{T1G} (io), 15 AVDD (power), 16 VDD (power), 17 RA6/OSC2/CLKOUT/T1CKI (io), 18 RA7/OSC1/CLKIN (io), 19 RB2/AN6 (io), 20 RB3/AN7/OPA (io)

## PIC16C782T-I/SS
designator U?
8-Bit CMOS Microcontroller with A/D, D/A, OPAMP, Comparators and PSMC, 2K (x14-Bit words) EPROM, 128 Bytes RAM, 20-Pin SSOP, 4.0 to 5.5V Supply Range, Industrial Temperature, Tape and Reel; Note: AVDD and AVSS pins are used for modules C1, C2, OPA, DAC, ADC, and VR.; ComponentAvailability: Unknown. Contact manufacturer to determine status.; Published: 11-Oct-2004; LatestRevisionDate: 29-Jan-2009; LatestRevisionNote: Sch. layout revised. 3D Model Removed.; DatasheetVersion: revA, Nov-2002; PackageVersion: revBB, Aug-2009; PackageReference: SSOP-SS20; Publisher: Altium Limited; PackageDescription: 20-Lead Plastic Shrink Small Outline (SS) - 5.3mm Body [SSOP]; Supplier 1: Digi-Key; Supplier Part Number 1: PIC16C782T-I/SS-ND; Code_JEDEC: MO-150; Code_IPC: SOP65P780-20; ComponentLink1Description: Datasheet; ComponentLink1URL: http://ww1.microchip.com/downloads/en/DeviceDoc/41171a.pdf; ComponentLink2Description: Packaging Specification; ComponentLink2URL: http://www.microchip.com/stellent/groups/techpub_sg/documents/packagingspec/en012702.pdf; ComponentLink3Description: Microchip.com Home; ComponentLink3URL: http://www.microchip.com/
footprint SSOP-SS20_N (SOP, 20-Leads, Body 7.2x5.2mm, Pitch 0.65mm, IPC Medium Density)
footprint SSOP-SS20_L (SOP, 20-Leads, Body 7.2x5.2mm, Pitch 0.65mm, IPC High Density)
footprint SSOP-SS20_M (SOP, 20-Leads, Body 7.2x5.2mm, Pitch 0.65mm, IPC Low Density)
pins: 1 RA0/AN0/OPA+ (io), 2 RA1/AN1/OPA (io), 3 RA4/T0CKI (io), 4 RA5/~{MCLR}/VPP (io), 5 VSS (power), 6 AVSS (power), 7 RA2/AN2/VREF2 (io), 8 RA3/AN3/VREF1 (io), 9 RB0/INT/AN4/VR (io), 10 RB1/AN5/VDAC (io), 11 RB4 (io), 12 RB5 (io), 13 RB6/C1/PSMC1A (io), 14 RB7/C2/PSMC1B/~{T1G} (io), 15 AVDD (power), 16 VDD (power), 17 RA6/OSC2/CLKOUT/T1CKI (io), 18 RA7/OSC1/CLKIN (io), 19 RB2/AN6 (io), 20 RB3/AN7/OPA (io)

## PIC16C925-I/L
designator U?
CMOS Microcontroller with LCD Drivers, 4K (x14-Bit words) EPROM, 176 Bytes SRAM, 68-Pin PLCC, 4.0 to 5.5V Supply Range, Industrial Temperature; ComponentAvailability: Unknown. Contact manufacturer to determine status.; Published: 11-Oct-2004; LatestRevisionDate: 29-Jan-2009; LatestRevisionNote: Sch. layout revised. 3D Model Removed.; DatasheetVersion: revA, Feb-2001; PackageVersion: revBB, Aug-2009; PackageReference: PLCC-L68; Publisher: Altium Limited; PackageDescription: 68-Lead Plastic Leaded Chip Carrier (L) - Square [PLCC]; Supplier 1: Digi-Key; Supplier Part Number 1: PIC16C925-I/L-ND; Supplier 2: Farnell; Supplier Part Number 2: 9760237; Code_JEDEC: MO-047; Code_IPC: PLCC-68; ComponentLink1Description: Datasheet; ComponentLink1URL: http://ww1.microchip.com/downloads/en/DeviceDoc/39544a.pdf; ComponentLink2Description: Packaging Specification; ComponentLink2URL: http://www.microchip.com/stellent/groups/techpub_sg/documents/packagingspec/en012702.pdf; ComponentLink3Description: Microchip.com Home; ComponentLink3URL: http://www.microchip.com/
footprint PLCC-L68_N (Leaded Chip Carrier, 68-Leads, Body 24x24mm, Pitch 1.27mm, IPC Medium Density)
footprint PLCC-L68_L (Leaded Chip Carrier, 68-Leads, Body 24x24mm, Pitch 1.27mm, IPC High Density)
footprint PLCC-L68_M (Leaded Chip Carrier, 68-Leads, Body 24x24mm, Pitch 1.27mm, IPC Low Density)
pins: 1 NC, 2 ~{MCLR}/VPP (in), 3 RB3 (io), 4 RB2 (io), 5 RA0/AN0 (io), 6 RA1/AN1 (io), 7 VSS (power), 8 RA2/AN2/VREF- (io), 9 RA3/AN3/VREF+ (io), 10 RA4/T0CKI (io), 11 RA5/AN4/~{SS} (io), 12 RB1 (io), 13 RB0/INT (io), 14 RC3/SCK/SCL (io), 15 RC4/SDI/SDA (io), 16 RC5/SDO (io), 17 C1 (in), 18 C2 (in), 19 VLCD2 (power), 20 VLCD3 (power), 21 AVDD (power), 22 VDD (power), 23 VSS (power), 24 OSC1/CLKIN (in), 25 OSC2/CLKOUT (out), 26 RC0/T1OSO/T1CKI (io), 27 RC1/T1OSI (io), 28 RC2/CCP1 (io), 29 VLCD1 (power), 30 VLCDADJ (in), 31 RD0/SEG00 (io), 32 RD1/SEG01 (io), 33 RD2/SEG02 (io), 34 RD3/SEG03 (io), 35 RD4/SEG04 (io), 36 RE7/SEG27 (io), 37 RE0/SEG05 (io), 38 RE1/SEG06 (io), 39 RE2/SEG07 (io), 40 RE3/SEG08 (io), 41 RE4/SEG09 (io), 42 RE5/SEG10 (io), 43 RE6/SEG11 (io), 44 RF0/SEG12 (io), 45 RF1/SEG13 (io), 46 RF2/SEG14 (io), 47 RF3/SEG15 (io), 48 RF4/SEG16 (io), 49 RF5/SEG17 (io), 50 RF6/SEG18 (io), 51 RF7/SEG19 (io), 52 RG7/SEG28 (io), 53 RG0/SEG20 (io), 54 RG1/SEG21 (io), 55 RG2/SEG22 (io), 56 RG3/SEG23 (io), 57 RG4/SEG24 (io), 58 RG5/SEG25 (io), 59 RG6/SEG26 (io), 60 RD5/SEG29/COM3 (io), 61 RD6/SEG30/COM2 (io), 62 RD7/SEG31/COM1 (io), 63 COM0 (out), 64 VDD (power), 65 RB6 (io), 66 RB7 (io), 67 RB5 (io), 68 RB4 (io)

## PIC16C925-I/PT
designator U?
CMOS Microcontroller with LCD Drivers, 4K (x14-Bit words) EPROM, 176 Bytes SRAM, 64-Pin TQFP, 4.0 to 5.5V Supply Range, Industrial Temperature; ComponentAvailability: Unknown. Contact manufacturer to determine status.; Published: 11-Oct-2004; LatestRevisionDate: 29-Jan-2009; LatestRevisionNote: Sch. layout revised. 3D Model Removed.; DatasheetVersion: revA, Feb-2001; PackageVersion: revBB, Aug-2009; PackageReference: TQFP-PT64; Publisher: Altium Limited; PackageDescription: 64-Lead Thin Plastic Quad Flat Pack (PT) - 10x10x1mm Body, 2.00mm [TQFP]; Supplier 1: Digi-Key; Supplier Part Number 1: PIC16C925-I/PT-ND; Code_JEDEC: MS-026; ComponentLink1Description: Datasheet; ComponentLink1URL: http://ww1.microchip.com/downloads/en/DeviceDoc/39544a.pdf; ComponentLink2Description: Packaging Specification; ComponentLink2URL: http://www.microchip.com/stellent/groups/techpub_sg/documents/packagingspec/en012702.pdf; ComponentLink3Description: Microchip.com Home; ComponentLink3URL: http://www.microchip.com/
footprint TQFP-PT64_N (Thin QFP, 64-Leads, Body 10x10mm, Pitch 0.5mm, IPC Medium Density)
footprint TQFP-PT64_L (Thin QFP, 64-Leads, Body 10x10mm, Pitch 0.5mm, IPC High Density)
footprint TQFP-PT64_M (Thin QFP, 64-Leads, Body 10x10mm, Pitch 0.5mm, IPC Low Density)
pins: 1 RA4/T0CKI (io), 2 RA5/AN4/SS (io), 3 RB1 (io), 4 RB0/INT (io), 5 RC3/SCK/SCL (io), 6 RC4/SDI/SDA (io), 7 RC5/SDO (io), 8 C1 (in), 9 C2 (in), 10 VLCD2 (power), 11 VLCD3 (power), 12 VDD (power), 13 VSS (power), 14 OSC1/CLKIN (in), 15 OSC2/CLKOUT (out), 16 RC0/T1OSO/T1CKI (io), 17 RC1/T1OSI (io), 18 RC2/CCP1 (io), 19 VLCD1 (power), 20 VLCDADJ (in), 21 RD0/SEG00 (io), 22 RD1/SEG01 (io), 23 RD2/SEG02 (io), 24 RD3/SEG03 (io), 25 RD4/SEG04 (io), 26 RE0/SEG05 (io), 27 RE1/SEG06 (io), 28 RE2/SEG07 (io), 29 RE3/SEG08 (io), 30 RE4/SEG09 (io), 31 RE5/SEG10 (io), 32 RE6/SEG11 (io), 33 RF0/SEG12 (io), 34 RF1/SEG13 (io), 35 RF2/SEG14 (io), 36 RF3/SEG15 (io), 37 RF4/SEG16 (io), 38 RF5/SEG17 (io), 39 RF6/SEG18 (io), 40 RF7/SEG19 (io), 41 RG0/SEG20 (io), 42 RG1/SEG21 (io), 43 RG2/SEG22 (io), 44 RG3/SEG23 (io), 45 RG4/SEG24 (io), 46 RG5/SEG25 (io), 47 RG6/SEG26 (io), 48 RD5/SEG29/COM3 (io), 49 RD6/SEG30/COM2 (io), 50 RD7/SEG31/COM1 (io), 51 COM0 (out), 52 VDD (power), 53 RB6 (io), 54 RB7 (io), 55 RB5 (io), 56 RB4 (io), 57 ~{MCLR}/VPP (in), 58 RB3 (io), 59 RB2 (io), 60 RA0/AN0 (io), 61 RA1/AN1 (io), 62 VSS (power), 63 RA2/AN2/VREF- (io), 64 RA3/AN3/VREF+ (io)

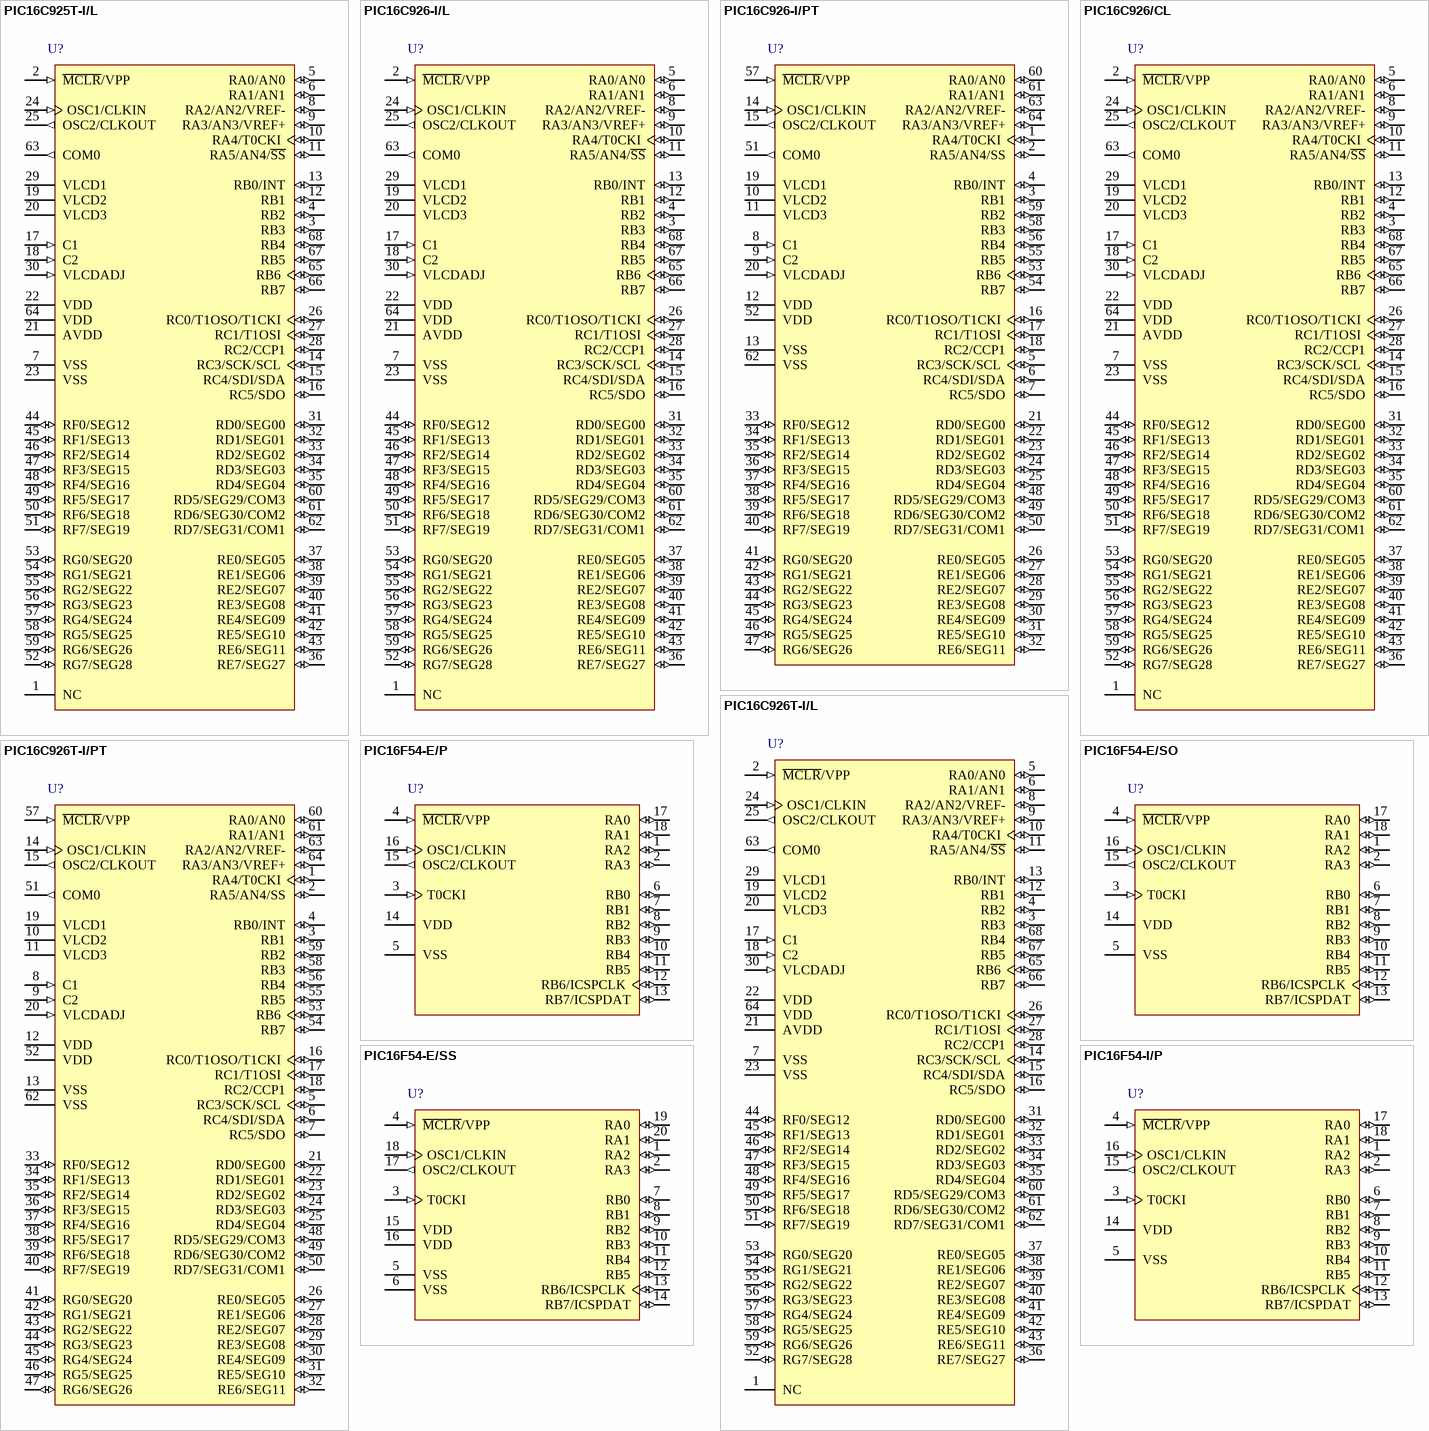
[diagram p22: symbols PIC16C925T-I/L to PIC16F54-I/P]

## PIC16C925T-I/L
designator U?
CMOS Microcontroller with LCD Driver, 4K (x14-Bit words) Program Memory, 176 Bytes Data Memory, 25 I/O pins, 68-Pin PLCC, Standard VDD Range, Industrial Temperature, Tape and Reel; ComponentAvailability: Unknown. Contact manufacturer to determine status.; Published: 29-Jan-2009; DatasheetVersion: revA, Feb-2001; PackageVersion: revBB, Aug-2009; PackageReference: PLCC-L68; Publisher: Altium Limited; PackageDescription: 68-Lead Plastic Leaded Chip Carrier (L) - Square [PLCC]; Supplier 1: Digi-Key; Supplier Part Number 1: PIC16C925T-I/L-ND; Code_JEDEC: MO-047; Code_IPC: PLCC-68; ComponentLink1Description: Datasheet; ComponentLink1URL: http://ww1.microchip.com/downloads/en/DeviceDoc/39544a.pdf; ComponentLink2Description: Packaging Specification; ComponentLink2URL: http://www.microchip.com/stellent/groups/techpub_sg/documents/packagingspec/en012702.pdf; ComponentLink3Description: Microchip.com Home; ComponentLink3URL: http://www.microchip.com/
footprint PLCC-L68_N (Leaded Chip Carrier, 68-Leads, Body 24x24mm, Pitch 1.27mm, IPC Medium Density)
footprint PLCC-L68_L (Leaded Chip Carrier, 68-Leads, Body 24x24mm, Pitch 1.27mm, IPC High Density)
footprint PLCC-L68_M (Leaded Chip Carrier, 68-Leads, Body 24x24mm, Pitch 1.27mm, IPC Low Density)
pins: 1 NC, 2 ~{MCLR}/VPP (in), 3 RB3 (io), 4 RB2 (io), 5 RA0/AN0 (io), 6 RA1/AN1 (io), 7 VSS (power), 8 RA2/AN2/VREF- (io), 9 RA3/AN3/VREF+ (io), 10 RA4/T0CKI (io), 11 RA5/AN4/~{SS} (io), 12 RB1 (io), 13 RB0/INT (io), 14 RC3/SCK/SCL (io), 15 RC4/SDI/SDA (io), 16 RC5/SDO (io), 17 C1 (in), 18 C2 (in), 19 VLCD2 (power), 20 VLCD3 (power), 21 AVDD (power), 22 VDD (power), 23 VSS (power), 24 OSC1/CLKIN (in), 25 OSC2/CLKOUT (out), 26 RC0/T1OSO/T1CKI (io), 27 RC1/T1OSI (io), 28 RC2/CCP1 (io), 29 VLCD1 (power), 30 VLCDADJ (in), 31 RD0/SEG00 (io), 32 RD1/SEG01 (io), 33 RD2/SEG02 (io), 34 RD3/SEG03 (io), 35 RD4/SEG04 (io), 36 RE7/SEG27 (io), 37 RE0/SEG05 (io), 38 RE1/SEG06 (io), 39 RE2/SEG07 (io), 40 RE3/SEG08 (io), 41 RE4/SEG09 (io), 42 RE5/SEG10 (io), 43 RE6/SEG11 (io), 44 RF0/SEG12 (io), 45 RF1/SEG13 (io), 46 RF2/SEG14 (io), 47 RF3/SEG15 (io), 48 RF4/SEG16 (io), 49 RF5/SEG17 (io), 50 RF6/SEG18 (io), 51 RF7/SEG19 (io), 52 RG7/SEG28 (io), 53 RG0/SEG20 (io), 54 RG1/SEG21 (io), 55 RG2/SEG22 (io), 56 RG3/SEG23 (io), 57 RG4/SEG24 (io), 58 RG5/SEG25 (io), 59 RG6/SEG26 (io), 60 RD5/SEG29/COM3 (io), 61 RD6/SEG30/COM2 (io), 62 RD7/SEG31/COM1 (io), 63 COM0 (out), 64 VDD (power), 65 RB6 (io), 66 RB7 (io), 67 RB5 (io), 68 RB4 (io)

## PIC16C926-I/L
designator U?
CMOS Microcontroller with LCD Drivers, 8K (x14-Bit words) EPROM, 336 Bytes SRAM, 68-Pin PLCC, 4.0 to 5.5V Supply Range, Industrial Temperature; ComponentAvailability: Unknown. Contact manufacturer to determine status.; Published: 11-Oct-2004; LatestRevisionDate: 29-Jan-2009; LatestRevisionNote: Sch. layout revised. 3D Model Removed.; DatasheetVersion: revA, Feb-2001; PackageVersion: revBB, Aug-2009; PackageReference: PLCC-L68; Publisher: Altium Limited; PackageDescription: 68-Lead Plastic Leaded Chip Carrier (L) - Square [PLCC]; Supplier 1: Digi-Key; Supplier Part Number 1: PIC16C926-I/L-ND; Supplier 2: Farnell; Supplier Part Number 2: 9760245; Code_JEDEC: MO-047; Code_IPC: PLCC-68; ComponentLink1Description: Datasheet; ComponentLink1URL: http://ww1.microchip.com/downloads/en/DeviceDoc/39544a.pdf; ComponentLink2Description: Packaging Specification; ComponentLink2URL: http://www.microchip.com/stellent/groups/techpub_sg/documents/packagingspec/en012702.pdf; ComponentLink3Description: Microchip.com Home; ComponentLink3URL: http://www.microchip.com/
footprint PLCC-L68_N (Leaded Chip Carrier, 68-Leads, Body 24x24mm, Pitch 1.27mm, IPC Medium Density)
footprint PLCC-L68_L (Leaded Chip Carrier, 68-Leads, Body 24x24mm, Pitch 1.27mm, IPC High Density)
footprint PLCC-L68_M (Leaded Chip Carrier, 68-Leads, Body 24x24mm, Pitch 1.27mm, IPC Low Density)
pins: 1 NC, 2 ~{MCLR}/VPP (in), 3 RB3 (io), 4 RB2 (io), 5 RA0/AN0 (io), 6 RA1/AN1 (io), 7 VSS (power), 8 RA2/AN2/VREF- (io), 9 RA3/AN3/VREF+ (io), 10 RA4/T0CKI (io), 11 RA5/AN4/~{SS} (io), 12 RB1 (io), 13 RB0/INT (io), 14 RC3/SCK/SCL (io), 15 RC4/SDI/SDA (io), 16 RC5/SDO (io), 17 C1 (in), 18 C2 (in), 19 VLCD2 (power), 20 VLCD3 (power), 21 AVDD (power), 22 VDD (power), 23 VSS (power), 24 OSC1/CLKIN (in), 25 OSC2/CLKOUT (out), 26 RC0/T1OSO/T1CKI (io), 27 RC1/T1OSI (io), 28 RC2/CCP1 (io), 29 VLCD1 (power), 30 VLCDADJ (in), 31 RD0/SEG00 (io), 32 RD1/SEG01 (io), 33 RD2/SEG02 (io), 34 RD3/SEG03 (io), 35 RD4/SEG04 (io), 36 RE7/SEG27 (io), 37 RE0/SEG05 (io), 38 RE1/SEG06 (io), 39 RE2/SEG07 (io), 40 RE3/SEG08 (io), 41 RE4/SEG09 (io), 42 RE5/SEG10 (io), 43 RE6/SEG11 (io), 44 RF0/SEG12 (io), 45 RF1/SEG13 (io), 46 RF2/SEG14 (io), 47 RF3/SEG15 (io), 48 RF4/SEG16 (io), 49 RF5/SEG17 (io), 50 RF6/SEG18 (io), 51 RF7/SEG19 (io), 52 RG7/SEG28 (io), 53 RG0/SEG20 (io), 54 RG1/SEG21 (io), 55 RG2/SEG22 (io), 56 RG3/SEG23 (io), 57 RG4/SEG24 (io), 58 RG5/SEG25 (io), 59 RG6/SEG26 (io), 60 RD5/SEG29/COM3 (io), 61 RD6/SEG30/COM2 (io), 62 RD7/SEG31/COM1 (io), 63 COM0 (out), 64 VDD (power), 65 RB6 (io), 66 RB7 (io), 67 RB5 (io), 68 RB4 (io)

## PIC16C926-I/PT
designator U?
CMOS Microcontroller with LCD Drivers, 8K (x14-Bit words) EPROM, 336 Bytes SRAM, 64-Pin TQFP, 4.0 to 5.5V Supply Range, Industrial Temperature; ComponentAvailability: Unknown. Contact manufacturer to determine status.; Published: 11-Oct-2004; LatestRevisionDate: 29-Jan-2009; LatestRevisionNote: Sch. layout revised. 3D Model Removed.; DatasheetVersion: revA, Feb-2001; PackageVersion: revBB, Aug-2009; PackageReference: TQFP-PT64; Publisher: Altium Limited; PackageDescription: 64-Lead Thin Plastic Quad Flat Pack (PT) - 10x10x1mm Body, 2.00mm [TQFP]; Supplier 1: Digi-Key; Supplier Part Number 1: PIC16C926-I/PT-ND; Code_JEDEC: MS-026; ComponentLink1Description: Datasheet; ComponentLink1URL: http://ww1.microchip.com/downloads/en/DeviceDoc/39544a.pdf; ComponentLink2Description: Packaging Specification; ComponentLink2URL: http://www.microchip.com/stellent/groups/techpub_sg/documents/packagingspec/en012702.pdf; ComponentLink3Description: Microchip.com Home; ComponentLink3URL: http://www.microchip.com/
footprint TQFP-PT64_N (Thin QFP, 64-Leads, Body 10x10mm, Pitch 0.5mm, IPC Medium Density)
footprint TQFP-PT64_L (Thin QFP, 64-Leads, Body 10x10mm, Pitch 0.5mm, IPC High Density)
footprint TQFP-PT64_M (Thin QFP, 64-Leads, Body 10x10mm, Pitch 0.5mm, IPC Low Density)
pins: 1 RA4/T0CKI (io), 2 RA5/AN4/SS (io), 3 RB1 (io), 4 RB0/INT (io), 5 RC3/SCK/SCL (io), 6 RC4/SDI/SDA (io), 7 RC5/SDO (io), 8 C1 (in), 9 C2 (in), 10 VLCD2 (power), 11 VLCD3 (power), 12 VDD (power), 13 VSS (power), 14 OSC1/CLKIN (in), 15 OSC2/CLKOUT (out), 16 RC0/T1OSO/T1CKI (io), 17 RC1/T1OSI (io), 18 RC2/CCP1 (io), 19 VLCD1 (power), 20 VLCDADJ (in), 21 RD0/SEG00 (io), 22 RD1/SEG01 (io), 23 RD2/SEG02 (io), 24 RD3/SEG03 (io), 25 RD4/SEG04 (io), 26 RE0/SEG05 (io), 27 RE1/SEG06 (io), 28 RE2/SEG07 (io), 29 RE3/SEG08 (io), 30 RE4/SEG09 (io), 31 RE5/SEG10 (io), 32 RE6/SEG11 (io), 33 RF0/SEG12 (io), 34 RF1/SEG13 (io), 35 RF2/SEG14 (io), 36 RF3/SEG15 (io), 37 RF4/SEG16 (io), 38 RF5/SEG17 (io), 39 RF6/SEG18 (io), 40 RF7/SEG19 (io), 41 RG0/SEG20 (io), 42 RG1/SEG21 (io), 43 RG2/SEG22 (io), 44 RG3/SEG23 (io), 45 RG4/SEG24 (io), 46 RG5/SEG25 (io), 47 RG6/SEG26 (io), 48 RD5/SEG29/COM3 (io), 49 RD6/SEG30/COM2 (io), 50 RD7/SEG31/COM1 (io), 51 COM0 (out), 52 VDD (power), 53 RB6 (io), 54 RB7 (io), 55 RB5 (io), 56 RB4 (io), 57 ~{MCLR}/VPP (in), 58 RB3 (io), 59 RB2 (io), 60 RA0/AN0 (io), 61 RA1/AN1 (io), 62 VSS (power), 63 RA2/AN2/VREF- (io), 64 RA3/AN3/VREF+ (io)

## PIC16C926/CL
designator U?
CMOS Microcontroller with LCD Driver, 8K (x14-Bit words) Program Memory, 336 Bytes Data Memory, 25 I/O pins, 68-Pin CERQUAD, UV Erasable, Standard VDD Range, Commercial Temperature; ComponentAvailability: Unknown. Contact manufacturer to determine status.; Published: 29-Jan-2009; DatasheetVersion: revA, Feb-2001; PackageVersion: revBB, Aug-2009; PackageReference: CERQUAD-CL68; Publisher: Altium Limited; PackageDescription: 68-Lead Ceramic Leaded (CL) Chip Carrier with Window - Square [CERQUAD]; Supplier 1: Digi-Key; Supplier Part Number 1: PIC16C926/CL-ND; Supplier 2: Farnell; Supplier Part Number 2: 3648308; Code_JEDEC: MO-087; Code_IPC: PLCC-68; ComponentLink1Description: Datasheet; ComponentLink1URL: http://ww1.microchip.com/downloads/en/DeviceDoc/39544a.pdf; ComponentLink2Description: Packaging Specification; ComponentLink2URL: http://www.microchip.com/stellent/groups/techpub_sg/documents/packagingspec/en012702.pdf; ComponentLink3Description: Microchip.com Home; ComponentLink3URL: http://www.microchip.com/
footprint CERQUAD-CL68_N (Leaded Chip Carrier, 68-Leads, Body 24x24mm, Pitch 1.27mm, Window, IPC Medium Density)
footprint CERQUAD-CL68_L (Leaded Chip Carrier, 68-Leads, Body 24x24mm, Pitch 1.27mm, Window, IPC High Density)
footprint CERQUAD-CL68_M (Leaded Chip Carrier, 68-Leads, Body 24x24mm, Pitch 1.27mm, Window, IPC Low Density)
pins: 1 NC, 2 ~{MCLR}/VPP (in), 3 RB3 (io), 4 RB2 (io), 5 RA0/AN0 (io), 6 RA1/AN1 (io), 7 VSS (power), 8 RA2/AN2/VREF- (io), 9 RA3/AN3/VREF+ (io), 10 RA4/T0CKI (io), 11 RA5/AN4/~{SS} (io), 12 RB1 (io), 13 RB0/INT (io), 14 RC3/SCK/SCL (io), 15 RC4/SDI/SDA (io), 16 RC5/SDO (io), 17 C1 (in), 18 C2 (in), 19 VLCD2 (power), 20 VLCD3 (power), 21 AVDD (power), 22 VDD (power), 23 VSS (power), 24 OSC1/CLKIN (in), 25 OSC2/CLKOUT (out), 26 RC0/T1OSO/T1CKI (io), 27 RC1/T1OSI (io), 28 RC2/CCP1 (io), 29 VLCD1 (power), 30 VLCDADJ (in), 31 RD0/SEG00 (io), 32 RD1/SEG01 (io), 33 RD2/SEG02 (io), 34 RD3/SEG03 (io), 35 RD4/SEG04 (io), 36 RE7/SEG27 (io), 37 RE0/SEG05 (io), 38 RE1/SEG06 (io), 39 RE2/SEG07 (io), 40 RE3/SEG08 (io), 41 RE4/SEG09 (io), 42 RE5/SEG10 (io), 43 RE6/SEG11 (io), 44 RF0/SEG12 (io), 45 RF1/SEG13 (io), 46 RF2/SEG14 (io), 47 RF3/SEG15 (io), 48 RF4/SEG16 (io), 49 RF5/SEG17 (io), 50 RF6/SEG18 (io), 51 RF7/SEG19 (io), 52 RG7/SEG28 (io), 53 RG0/SEG20 (io), 54 RG1/SEG21 (io), 55 RG2/SEG22 (io), 56 RG3/SEG23 (io), 57 RG4/SEG24 (io), 58 RG5/SEG25 (io), 59 RG6/SEG26 (io), 60 RD5/SEG29/COM3 (io), 61 RD6/SEG30/COM2 (io), 62 RD7/SEG31/COM1 (io), 63 COM0 (out), 64 VDD (power), 65 RB6 (io), 66 RB7 (io), 67 RB5 (io), 68 RB4 (io)

## PIC16C926T-I/L
designator U?
CMOS Microcontroller with LCD Driver, 8K (x14-Bit words) Program Memory, 336 Bytes Data Memory, 25 I/O pins, 68-Pin PLCC, Standard VDD Range, Industrial Temperature, Tape and Reel; ComponentAvailability: Unknown. Contact manufacturer to determine status.; Published: 29-Jan-2009; DatasheetVersion: revA, Feb-2001; PackageVersion: revBB, Aug-2009; PackageReference: PLCC-L68; Publisher: Altium Limited; PackageDescription: 68-Lead Plastic Leaded Chip Carrier (L) - Square [PLCC]; Supplier 1: Digi-Key; Supplier Part Number 1: PIC16C926T-I/L-ND; Code_JEDEC: MO-047; Code_IPC: PLCC-68; ComponentLink1Description: Datasheet; ComponentLink1URL: http://ww1.microchip.com/downloads/en/DeviceDoc/39544a.pdf; ComponentLink2Description: Packaging Specification; ComponentLink2URL: http://www.microchip.com/stellent/groups/techpub_sg/documents/packagingspec/en012702.pdf; ComponentLink3Description: Microchip.com Home; ComponentLink3URL: http://www.microchip.com/
footprint PLCC-L68_N (Leaded Chip Carrier, 68-Leads, Body 24x24mm, Pitch 1.27mm, IPC Medium Density)
footprint PLCC-L68_L (Leaded Chip Carrier, 68-Leads, Body 24x24mm, Pitch 1.27mm, IPC High Density)
footprint PLCC-L68_M (Leaded Chip Carrier, 68-Leads, Body 24x24mm, Pitch 1.27mm, IPC Low Density)
pins: 1 NC, 2 ~{MCLR}/VPP (in), 3 RB3 (io), 4 RB2 (io), 5 RA0/AN0 (io), 6 RA1/AN1 (io), 7 VSS (power), 8 RA2/AN2/VREF- (io), 9 RA3/AN3/VREF+ (io), 10 RA4/T0CKI (io), 11 RA5/AN4/~{SS} (io), 12 RB1 (io), 13 RB0/INT (io), 14 RC3/SCK/SCL (io), 15 RC4/SDI/SDA (io), 16 RC5/SDO (io), 17 C1 (in), 18 C2 (in), 19 VLCD2 (power), 20 VLCD3 (power), 21 AVDD (power), 22 VDD (power), 23 VSS (power), 24 OSC1/CLKIN (in), 25 OSC2/CLKOUT (out), 26 RC0/T1OSO/T1CKI (io), 27 RC1/T1OSI (io), 28 RC2/CCP1 (io), 29 VLCD1 (power), 30 VLCDADJ (in), 31 RD0/SEG00 (io), 32 RD1/SEG01 (io), 33 RD2/SEG02 (io), 34 RD3/SEG03 (io), 35 RD4/SEG04 (io), 36 RE7/SEG27 (io), 37 RE0/SEG05 (io), 38 RE1/SEG06 (io), 39 RE2/SEG07 (io), 40 RE3/SEG08 (io), 41 RE4/SEG09 (io), 42 RE5/SEG10 (io), 43 RE6/SEG11 (io), 44 RF0/SEG12 (io), 45 RF1/SEG13 (io), 46 RF2/SEG14 (io), 47 RF3/SEG15 (io), 48 RF4/SEG16 (io), 49 RF5/SEG17 (io), 50 RF6/SEG18 (io), 51 RF7/SEG19 (io), 52 RG7/SEG28 (io), 53 RG0/SEG20 (io), 54 RG1/SEG21 (io), 55 RG2/SEG22 (io), 56 RG3/SEG23 (io), 57 RG4/SEG24 (io), 58 RG5/SEG25 (io), 59 RG6/SEG26 (io), 60 RD5/SEG29/COM3 (io), 61 RD6/SEG30/COM2 (io), 62 RD7/SEG31/COM1 (io), 63 COM0 (out), 64 VDD (power), 65 RB6 (io), 66 RB7 (io), 67 RB5 (io), 68 RB4 (io)

## PIC16C926T-I/PT
designator U?
CMOS Microcontroller with LCD Driver, 8K (x14-Bit words) Program Memory, 336 Bytes Data Memory, 25 I/O pins, 64-Pin TQFP, Standard VDD Range, Industrial Temperature, Tape and Reel; ComponentAvailability: Unknown. Contact manufacturer to determine status.; Published: 29-Jan-2009; DatasheetVersion: revA, Feb-2001; PackageVersion: revBB, Aug-2009; PackageReference: TQFP-PT64; Publisher: Altium Limited; PackageDescription: 64-Lead Thin Plastic Quad Flat Pack (PT) - 10x10x1mm Body, 2.00mm [TQFP]; Supplier 1: Digi-Key; Supplier Part Number 1: PIC16C926T-I/PT-ND; Code_JEDEC: MS-026; ComponentLink1Description: Datasheet; ComponentLink1URL: http://ww1.microchip.com/downloads/en/DeviceDoc/39544a.pdf; ComponentLink2Description: Packaging Specification; ComponentLink2URL: http://www.microchip.com/stellent/groups/techpub_sg/documents/packagingspec/en012702.pdf; ComponentLink3Description: Microchip.com Home; ComponentLink3URL: http://www.microchip.com/
footprint TQFP-PT64_N (Thin QFP, 64-Leads, Body 10x10mm, Pitch 0.5mm, IPC Medium Density)
footprint TQFP-PT64_L (Thin QFP, 64-Leads, Body 10x10mm, Pitch 0.5mm, IPC High Density)
footprint TQFP-PT64_M (Thin QFP, 64-Leads, Body 10x10mm, Pitch 0.5mm, IPC Low Density)
pins: 1 RA4/T0CKI (io), 2 RA5/AN4/SS (io), 3 RB1 (io), 4 RB0/INT (io), 5 RC3/SCK/SCL (io), 6 RC4/SDI/SDA (io), 7 RC5/SDO (io), 8 C1 (in), 9 C2 (in), 10 VLCD2 (power), 11 VLCD3 (power), 12 VDD (power), 13 VSS (power), 14 OSC1/CLKIN (in), 15 OSC2/CLKOUT (out), 16 RC0/T1OSO/T1CKI (io), 17 RC1/T1OSI (io), 18 RC2/CCP1 (io), 19 VLCD1 (power), 20 VLCDADJ (in), 21 RD0/SEG00 (io), 22 RD1/SEG01 (io), 23 RD2/SEG02 (io), 24 RD3/SEG03 (io), 25 RD4/SEG04 (io), 26 RE0/SEG05 (io), 27 RE1/SEG06 (io), 28 RE2/SEG07 (io), 29 RE3/SEG08 (io), 30 RE4/SEG09 (io), 31 RE5/SEG10 (io), 32 RE6/SEG11 (io), 33 RF0/SEG12 (io), 34 RF1/SEG13 (io), 35 RF2/SEG14 (io), 36 RF3/SEG15 (io), 37 RF4/SEG16 (io), 38 RF5/SEG17 (io), 39 RF6/SEG18 (io), 40 RF7/SEG19 (io), 41 RG0/SEG20 (io), 42 RG1/SEG21 (io), 43 RG2/SEG22 (io), 44 RG3/SEG23 (io), 45 RG4/SEG24 (io), 46 RG5/SEG25 (io), 47 RG6/SEG26 (io), 48 RD5/SEG29/COM3 (io), 49 RD6/SEG30/COM2 (io), 50 RD7/SEG31/COM1 (io), 51 COM0 (out), 52 VDD (power), 53 RB6 (io), 54 RB7 (io), 55 RB5 (io), 56 RB4 (io), 57 ~{MCLR}/VPP (in), 58 RB3 (io), 59 RB2 (io), 60 RA0/AN0 (io), 61 RA1/AN1 (io), 62 VSS (power), 63 RA2/AN2/VREF- (io), 64 RA3/AN3/VREF+ (io)

## PIC16F54-E/P
designator U?
Flash-Based, 8-Bit CMOS Microcontroller, 512 (x12-Bit words) Program Memory, 25 Bytes Data Memory, 12 I/O pins, 18-Pin PDIP, Standard VDD Range, Extended Temperature; Published: 29-Jan-2009; DatasheetVersion: revD, Apr-2007; PackageVersion: revBB, Aug-2009; PackageReference: PDIP300-P18; Publisher: Altium Limited; PackageDescription: 18-Lead Plastic Dual In-Line (P) - 300 mil Body [PDIP]; Supplier 1: Digi-Key; Supplier Part Number 1: PIC16F54-E/P-ND; Supplier 2: Farnell; Supplier Part Number 2: 1818701; Code_JEDEC: MS-001; ComponentLink1Description: Datasheet; ComponentLink1URL: http://ww1.microchip.com/downloads/en/DeviceDoc/41213D.pdf; ComponentLink2Description: Packaging Specification; ComponentLink2URL: http://www.microchip.com/stellent/groups/techpub_sg/documents/packagingspec/en012702.pdf; ComponentLink3Description: Microchip.com Home; ComponentLink3URL: http://www.microchip.com/
footprint PDIP300-P18 (DIP, 18-Leads, Row Spacing 7.62mm, Pitch 2.54mm, Body 22.9x6.6mm)
pins: 1 RA2 (io), 2 RA3 (io), 3 T0CKI (in), 4 ~{MCLR}/VPP (in), 5 VSS (power), 6 RB0 (io), 7 RB1 (io), 8 RB2 (io), 9 RB3 (io), 10 RB4 (io), 11 RB5 (io), 12 RB6/ICSPCLK (io), 13 RB7/ICSPDAT (io), 14 VDD (power), 15 OSC2/CLKOUT (out), 16 OSC1/CLKIN (in), 17 RA0 (io), 18 RA1 (io)